# Altium footprint library PCB - DIODES - MCC SOD-323.PCBLIB: 1 footprints
Each footprint in its own frame and in the unit in brackets; x right, y up, seen from the top. Pads: shape width x height; smd on the part's side, far side on the other; paste and mask are expansions set on the pad; w line width, h text height; cw(c..) or ccw(c..) is an arc to the next point about the centre after c.
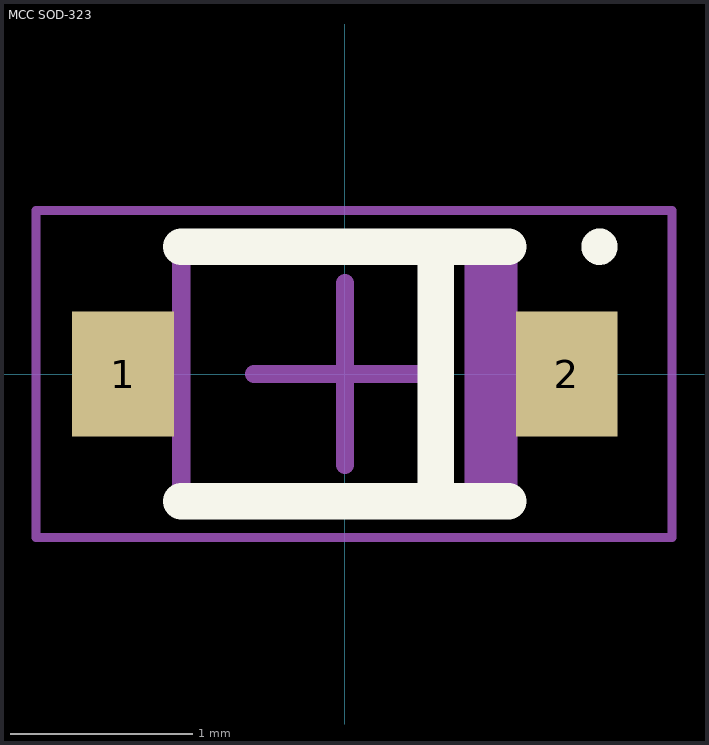
[diagram p0: the footprint, top view; thin cyan lines are the x and y axes]

## MCC SOD-323 [mm] "SOD-323, 2-Leads, Body 1.70x1.25mm"
height 1.15
pads (2):
  rect 0.56x0.69 smd: 1(-1.22,0) 2(1.22,0)
Top Overlay:
  circle w0.1: c1.4,0.7 r0.05
  lines w0.2: -0.9,-0.7 0.9,-0.7 ; -0.9,0.7 0.9,0.7 ; 0.5,-0.7 0.5,0.7
Mechanical 13:
  rectangle: 0.658,-0.675 0.9,0.675
  lines w0.1: -0.9,-0.675 0.9,-0.675 0.9,0.675 -0.9,0.675 -0.9,-0.675
Mechanical 15:
  lines w0.05: -1.7,-0.9 1.8,-0.9 1.8,0.9 -1.7,0.9 -1.7,-0.9
  lines w0.1: -0.5,0 0.5,0 ; 0,-0.5 0,0.5
3D body "MCC - SOD-323.step": height 1.2, standoff 0, extent -1.36,-0.625 1.36,0.625